# Altium footprint library driverBoard.PcbLib: 16 footprints
Each footprint in its own frame and in the unit in brackets; x right, y up, seen from the top. Pads: shape width x height; smd on the part's side, far side on the other; paste and mask are expansions set on the pad; w line width, h text height; cw(c..) or ccw(c..) is an arc to the next point about the centre after c.
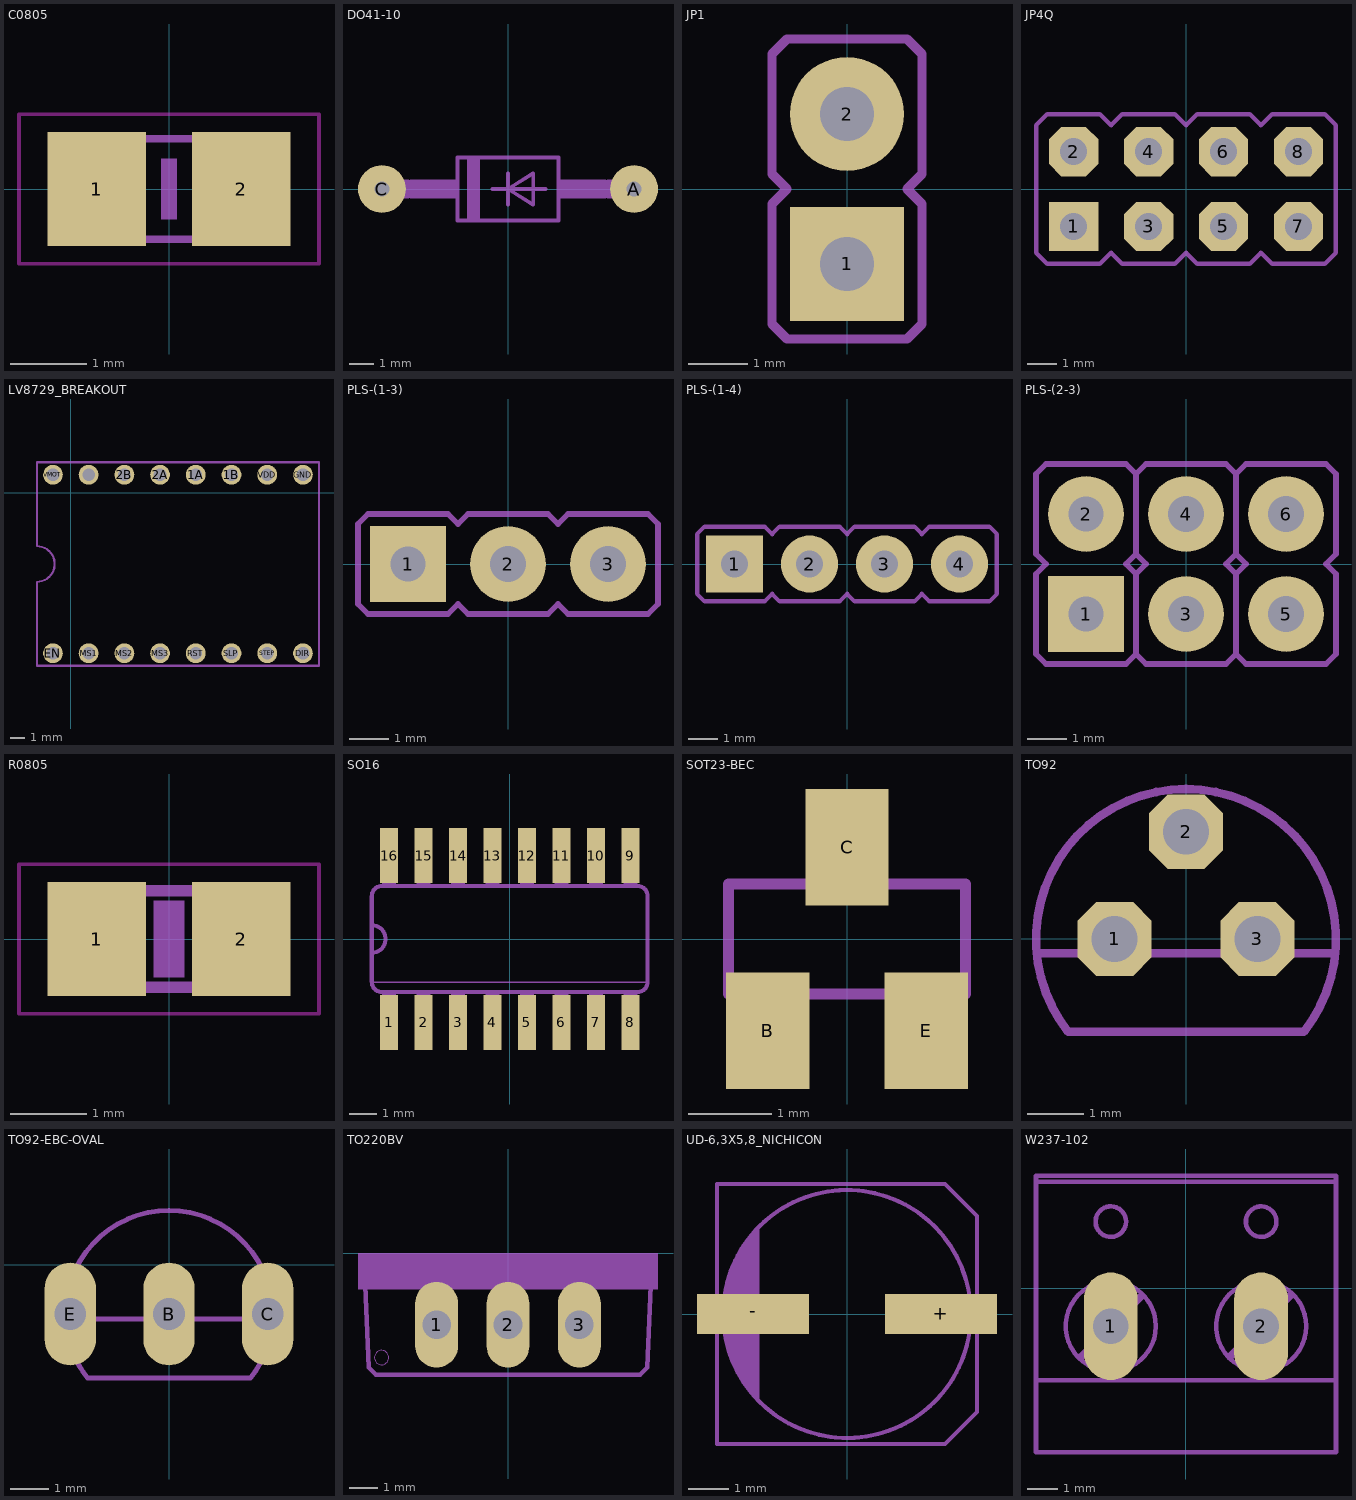
[diagram p0: the footprints below, top view; thin cyan lines are the x and y axes]

## C0805 [mil] "C0805"
pads (2):
  rect 51.18x59.06 smd: 1(-37.4,0) 2(37.4,0)
Top Layer keep-out:
  lines w2: -77.68,-38.7 77.68,-38.7 77.68,38.7 -77.68,38.7 -77.68,-38.7
Mechanical 4:
  region: -43,-28.5 -43,28.59 -13.47,28.59 -13.47,-28.5
  region: 14,-28.5 14,28.59 43.53,28.59 43.53,-28.5
  lines w4: -15,25.98 15,25.98 ; -14.02,-25.98 15,-25.98
Bottom Glue Points:
  region: -3.94,-15.75 -3.94,15.75 3.94,15.75 3.94,-15.75
3D body "CAP 0805.x_b": height 50.66, standoff 0.5, extent -39.37,-25 39.37,25.16

## DO41-10 [mil] "DO41-10"
pads (2):
  round 76 / inner round 0 / far side round 76 hole 23.62: A(200,0) C(-200,0)
Mechanical 4:
  lines w30: -200,0 -160,0 ; 160,0 200,0
Mechanical 8:
  region: -155,-15 -155,15 -80,15 -80,-15
  region: 80,-15 80,15 155,15 155,-15
  region: -65,-50 -65,50 -45,50 -45,-50
  lines w6: -25,0 0,0 ; 0,-25 0,0 ; 0,25 0,0 ; 60,0 0,0 ; 0,0 40,25 40,-25 0,0 ; -80,-50 -80,50 80,50 80,-50 -80,-50
3D body "DO-41-L=10.16.x_b": height 121.91, standoff -79.61, extent -216.89,-51.95 216.9,51.94

## JP1 [mil] "JP1"
pads (2):
  rect 76x76 / inner round 70.21 / far side rect 76x76 hole 36: 1(0,-50)
  round 76 hole 36: 2(0,50)
Mechanical 3:
  region: -12,38 -12,62 12,62 12,38
  region: -12,-62 -12,-38 12,-38 12,-62
Mechanical 7:
  lines w6: -50,-90 -50,-10 -40,0 -50,10 -50,90 -40,100 40,100 50,90 50,10 40,0 50,-10 50,-90 40,-100 -40,-100 -50,-90
3D body "PLS-2 (DS1021-1x2).x_b": height 339.08, standoff -117.61, extent -49.8,-100 50.2,100

## JP4Q [mil] "JP4Q"
pads (8):
  rect 66x66 / inner round 0 / far side rect 66x66 hole 36: 1(-150,-50)
  oct 66x66 / inner round 0 / far side oct 66x66 hole 36: 2(-150,50) 3(-50,-50) 4(-50,50) 5(50,-50) 6(50,50) 7(150,-50) 8(150,50)
Mechanical 3:
  region: 38,-62 38,-38 62,-38 62,-62
  region: 138,38 138,62 162,62 162,38
  region: -62,-62 -62,-38 -38,-38 -38,-62
  region: -162,-62 -162,-38 -138,-38 -138,-62
  region: 138,-62 138,-38 162,-38 162,-62
  region: 38,38 38,62 62,62 62,38
  region: -62,38 -62,62 -38,62 -38,38
  region: -162,38 -162,62 -138,62 -138,38
Mechanical 7:
  lines w6: -200,-85 -185,-100 -115,-100 -100,-85 -85,-100 -15,-100 0,-85 15,-100 85,-100 100,-85 115,-100 185,-100 200,-85 200,85 185,100 115,100 100,85 85,100 15,100 0,85 -15,100 -85,100 -100,85 -115,100 -185,100 -200,85 -200,-85
3D body "PLS (DS1021-2x4).x_b": height 339.08, standoff -117.61, extent -200,-99.61 200,100.39

## LV8729_BREAKOUT [mil] "LV8729_BREAKOUT"
pads (16):
  round 55.43 / inner round 0 / far side round 55.43 hole 35.43: 1A(350,50) 1B(450,50) 2A(250,50) 2B(150,50) DIR(650,-450) EN(-50,-450) GND(650,50) GND@0(50,50) MS1(50,-450) MS2(150,-450) MS3(250,-450) RST(350,-450) SLP(450,-450) STEP(550,-450) VDD(550,50) VMOT(-50,50)
Mechanical 7:
  lines w6: -95,-485 -95,-250 ccw(c-95,-200) -95,-150 -95,85 695,85 695,-485 -95,-485
  text "EN" at -25,-400 h37.2
  text "MS1" at 75,-400 h37.2
  text "MS2" at 175,-400 h37.2
  text "MS3" at 275,-400 h37.2
  text "RST" at 375,-400 h37.2
  text "STEP" at 575,-400 h37.2
  text "DIR" at 675,-400 h37.2
  text "Vmot" at -75,0 h37.2
  text "GND" at 25,0 h37.2
  text "2B" at 125,0 h37.2
  text "2A" at 225,0 h37.2
  text "1A" at 325,0 h37.2
  text "1B" at 425,0 h37.2
  text "VDD" at 525,0 h37.2
  text "GND" at 625,0 h37.2
  text "SLP" at 475,-400 h37.2
3D body "LV8729Driver.x_b": height 1024.13, standoff -117.61, extent -100.39,-500.99 700.79,99.41

## PLS-(1-3) [mil] "PLS-(1-3)"
pads (3):
  rect 76x76 / inner round 0 / far side rect 76x76 hole 35.43: 1(-100,0)
  round 76 / inner round 0 / far side round 76 hole 36: 2(0,0) 3(100,0)
Mechanical 3:
  region: -112,-12 -112,12 -88,12 -88,-12
  region: -12,-12 -12,12 12,12 12,-12
  region: 88,-12 88,12 112,12 112,-12
Mechanical 7:
  lines w6: -150,-40 -150,40 -140,50 -60,50 -50,40 -40,50 40,50 50,40 60,50 140,50 150,40 150,-40 140,-50 60,-50 50,-40 40,-50 -40,-50 -50,-40 -60,-50 -140,-50 -150,-40
3D body "PLS-3 (DS1021-1x3).x_b": height 339.08, standoff -117.61, extent -150,-49.99 150,50.01

## PLS-(1-4) [mil] "PLS-(1-4)"
pads (4):
  rect 76x76 / inner round 0 / far side rect 76x76 hole 35.43: 1(-150,0)
  round 76 / inner round 0 / far side round 76 hole 36: 2(-50,0) 3(50,0) 4(150,0)
Mechanical 3:
  region: -162,-12 -162,12 -138,12 -138,-12
  region: -62,-12 -62,12 -38,12 -38,-12
  region: 38,-12 38,12 62,12 62,-12
  region: 138,-12 138,12 162,12 162,-12
Mechanical 7:
  lines w6: -200,-40 -200,40 -190,50 -110,50 -100,40 -90,50 -10,50 0,40 10,50 90,50 100,40 110,50 190,50 200,40 200,-40 190,-50 110,-50 100,-40 90,-50 10,-50 0,-40 -10,-50 -90,-50 -100,-40 -110,-50 -190,-50 -200,-40
3D body "PLS-4 (DS1021-1x4).x_b": height 339.08, standoff -117.61, extent -200,-50.2 200,49.8

## PLS-(2-3) [mil] "PLS-(2-3)"
pads (6):
  rect 76x76 / inner round 0 / far side rect 76x76 hole 35.43: 1(-100,-50)
  round 76 / inner round 0 / far side round 76 hole 35.43: 2(-100,50)
  round 76 / inner round 0 / far side round 76 hole 36: 3(0,-50) 4(0,50) 5(100,-50) 6(100,50)
Mechanical 3:
  region: 88,38 88,62 112,62 112,38
  region: -12,38 -12,62 12,62 12,38
  region: -112,38 -112,62 -88,62 -88,38
  region: 88,-62 88,-38 112,-38 112,-62
  region: -12,-62 -12,-38 12,-38 12,-62
  region: -112,-62 -112,-38 -88,-38 -88,-62
Mechanical 7:
  lines w5: -49.91,-91.13 -49.78,-91.13 ; -49.89,9.2 -49.78,9.2
  lines w6: -49.91,-91.13 -49.91,-9.37 ; -49.89,9.2 -49.89,90.84 ; 50.01,-90.86 50.18,-90.86 50.18,-9.27 ; 50.09,90.35 50.09,9.27 50.18,9.27 ; -150,-90 -140,-100 -60,-100 -50,-90 -40,-100 40,-100 50,-90 60,-100 140,-100 150,-90 150,-10 140,0 150,10 150,90 140,100 60,100 50,90 40,100 -40,100 -50,90 -60,100 -140,100 -150,90 -150,10 -140,0 -150,-10 -150,-90 ; -60,0 -50,10 -40,0 -50,-10 -60,0 ; 40,0 50,10 60,0 50,-10 40,0
3D body "PLS (DS1021-2x3).x_b": height 339.08, standoff -117.61, extent -150,-100.59 150,99.41

## R0805 [mil] "R0805"
pads (2):
  rect 51.18x59.06 smd: 1(-37.4,0) 2(37.4,0)
Top Layer keep-out:
  lines w2: -77.68,-38.7 -77.68,38.7 77.68,38.7 77.68,-38.7 -77.68,-38.7
Mechanical 4:
  region: -42,-27.5 -42,27.62 -16.41,27.62 -16.41,-27.5
  region: 16,-27.5 16,27.62 41.59,27.62 41.59,-27.5
  lines w6: -16.14,-25 16.14,-25 ; -16.14,25 16.14,25
Bottom Glue Points:
  region: -7.87,-19.69 -7.87,19.69 7.87,19.69 7.87,-19.69

## SO16 [mil] "SO16"
pads (16):
  rect 26x80 smd: 1(-175,-121) 2(-125,-121) 3(-75,-121) 4(-25,-121) 5(25,-121) 6(75,-121) 7(125,-121) 8(175,-121) 9(175,121) 10(125,121) 11(75,121) 12(25,121) 13(-25,121) 14(-75,121) 15(-125,121) 16(-175,121)
Mechanical 4:
  region: -35,77 -35,122 -15,122 -15,77
  region: -185,-122 -185,-77 -165,-77 -165,-122
  region: -135,-122 -135,-77 -115,-77 -115,-122
  region: -85,-121 -85,-76 -65,-76 -65,-121
  region: -35,-122 -35,-77 -15,-77 -15,-122
  region: -85,77 -85,122 -65,122 -65,77
  region: -135,77 -135,122 -115,122 -115,77
  region: -185,77 -185,122 -165,122 -165,77
  region: 15,-122 15,-77 35,-77 35,-122
  region: 65,-122 65,-77 85,-77 85,-122
  region: 115,-122 115,-77 135,-77 135,-122
  region: 165,-122 165,-77 185,-77 185,-122
  region: 15,77 15,122 35,122 35,77
  region: 65,77 65,122 85,122 85,77
  region: 115,77 115,122 135,122 135,77
  region: 165,77 165,122 185,122 185,77
  lines w6: -185,-77 185,-77 ; -185,77 185,77
Mechanical 8:
  lines w2: -200,-63 200,-63
  lines w6: -185,-77 cw(c-185,-62) -200,-62 -200,-20 ; -185,77 ccw(c-185,62) -200,62 -200,20 ; 185,-77 ccw(c185,-62) 200,-62 200,62 ccw(c185,62) 185,77 ; -200,-20 ccw(c-200,0) -200,20 ; -200,-20 -200,20
3D body "SOIC16 narrow.x_b": height 78.74, standoff 0.13, extent -198.43,-121.32 198.43,121.32

## SOT23-BEC [mm] "SOT23-BEC"
pads (3):
  rect 1x1.4 smd: B(-0.95,-1.1) C(0,1.1) E(0.95,-1.1)
Mechanical 4:
  region: -1.168,-1.295 -1.168,-0.711 -0.711,-0.711 -0.711,-1.295
  region: 0.711,-1.295 0.711,-0.711 1.168,-0.711 1.168,-1.295
  region: -0.229,0.711 -0.229,1.295 0.229,1.295 0.229,0.711
  lines w0.127: -1.422,-0.66 -1.422,0.66 1.422,0.66 1.422,-0.66 -1.422,-0.66
3D body "sot-23-3-infineon.x_b": height 1, standoff 0, extent -1.45,-1.135 1.45,1.185

## TO92 [mil] "TO92"
pads (3):
  oct 52x52 / inner round 0 / far side oct 52x52 hole 32: 1(-50,0) 2(0,75) 3(50,0)
Mechanical 3:
  lines w6: -88.74,-10 -11.26,-10 ; -30.96,100.33 cw(c0,0) 30.96,100.33 ; 11.26,-10 88.74,-10
Mechanical 7:
  lines w6: -104.53,-10 -88.74,-10 ; -30.98,100.33 ccw(c-0.02,0) -82.48,-65 82.48,-65 ccw(c0.02,0) 30.98,100.33 ; -11.26,-10 11.26,-10 ; 88.74,-10 104.53,-10
3D body "TO-92_triangle_pin.x_b": height 322.83, standoff -118.11, extent -98.43,-55.36 99.33,116.39

## TO92-EBC-OVAL [mil] "TO92-EBC-OVAL"
pads (3):
  oval 52x104 / inner round 0 / far side oval 52x104 hole 32: B(0,-50) C(100,-50) E(-100,-50)
Mechanical 3:
  lines w5: -104.88,-55 -55.28,-55 ; -95,-94.72 cw(c0,-50) -95,-5.28 ; -44.72,-55 44.72,-55 ; 55.28,-55 104.88,-55 ; 95,-94.72 ccw(c0,-50) 95,-5.28
Mechanical 7:
  lines w5: -95.02,-94.72 ccw(c-0.02,-49.99) -82.48,-115 82.48,-115 ccw(c0.01,-50) 95.46,-93.77 ; -95,-5.28 cw(c0,-50) 95,-5.28 ; -55.28,-55 -44.72,-55 ; 44.72,-55 55.28,-55
3D body "TO-92_line_pin_2_5mm_pitch.x_b": height 322.83, standoff -118.11, extent -108.26,-122.84 108.28,48.91

## TO220BV [mil] "TO220BV"
pads (3):
  oval 60x120 / inner round 0 / far side oval 60x120 hole 40: 1(-100,-100) 2(0,-100) 3(100,-100)
Mechanical 3:
  region: -135,-50 -135,-30 -65,-30 -65,-50
  region: -35,-50 -35,-30 35,-30 35,-50
  region: 65,-50 65,-30 135,-30 135,-50
Mechanical 7:
  circle w0: c-177,-146 r10
  region: -210,-30 -210,0 210,0 210,-30
  region: -210,-50 -210,-30 -135,-30 -135,-50
  region: -65,-50 -65,-30 -35,-30 -35,-50
  region: 35,-50 35,-30 65,-30 65,-50
  region: 135,-50 135,-30 210,-30 210,-50
  lines w6: -200,-45 -195,-160 -185,-170 185,-170 195,-160 200,-45
3D body "TO-220HS.x_b": height 730, standoff -150, extent -199.99,-154.99 200.01,25

## UD-6,3X5,8_NICHICON [mm] "UD-6,3X5,8_NICHICON"
pads (2):
  rect 2.8x1 smd: +(2.35,0) -(-2.35,0)
Mechanical 4:
  circle w0.102: c0,0 r3.1
  region: -2.2,2.15 -2.339,2.008 -2.577,1.69 -2.773,1.345 -2.923,0.977 -3.024,0.593 -3.075,0.199 -3.075,-0.199 -3.024,-0.593 -2.923,-0.977 -2.773,-1.345 -2.577,-1.69 -2.339,-2.008 -2.2,-2.15
  lines w0.102: -3.25,-3.25 2.45,-3.25 3.25,-2.45 3.25,2.45 2.45,3.25 -3.25,3.25 -3.25,-3.25
Mechanical 8:
  lines w0.102: -3.25,-0.7 -3.25,-3.25 2.45,-3.25 3.25,-2.45 ; -3.25,0.8 -3.25,3.25 2.45,3.25 3.25,2.45 ; -3,0.775 cw(c-0.002,0.005) 2.975,0.85 ; -2.975,-0.85 ccw(c0.002,-0.005) 3,-0.775
3D body "L6.3 SIZE CODE C55.x_b": height 5.41, standoff 0.01, extent -3.675,-3.3 3.625,3.3

## W237-102 [mil] "W237-102"
pads (2):
  oval 70.5x141 / inner round 0 / far side oval 70.5x141 hole 47: 1(-98.43,-50) 2(98.43,-50)
Mechanical 3:
  circle w6: c98.57,-50 r59
  circle w6: c-98.43,-50 r59
  lines w6: -133.43,-120.98 -63.43,-120.98 ; 63.58,-120.98 133.58,-120.98
  lines w10: -137.44,-90 -58.43,-10.98 ; 58.58,-89.02 136.57,-10
Mechanical 7:
  circle w6: c98.57,87 r20
  circle w6: c-98.43,87 r20
  lines w6: -133.43,-120.98 -196.42,-120.98 ; -63.43,-120.98 63.58,-120.98 ; 133.58,-120.98 196.57,-120.98 ; -196.42,-120.98 -196.42,139.02 ; -196.42,-120.98 -196.42,-215 196.57,-215 196.57,-120.98 ; -196.42,139.02 -196.42,147.01 196.57,147.01 196.57,139.02 ; -196.42,139.02 196.57,139.02 ; 196.57,-120.98 196.57,139.02
  text "2" at 16.57,25 h77.5
  text "1" at -178.43,25 h77.5
3D body "W237-102.x_b": height 409.21, standoff -156.98, extent -208.66,-187.01 200.79,120.08